# EAGLE library part EPF10K130V-P240 (library altera_SGQ)
EPF10K130 FLEX 10K family
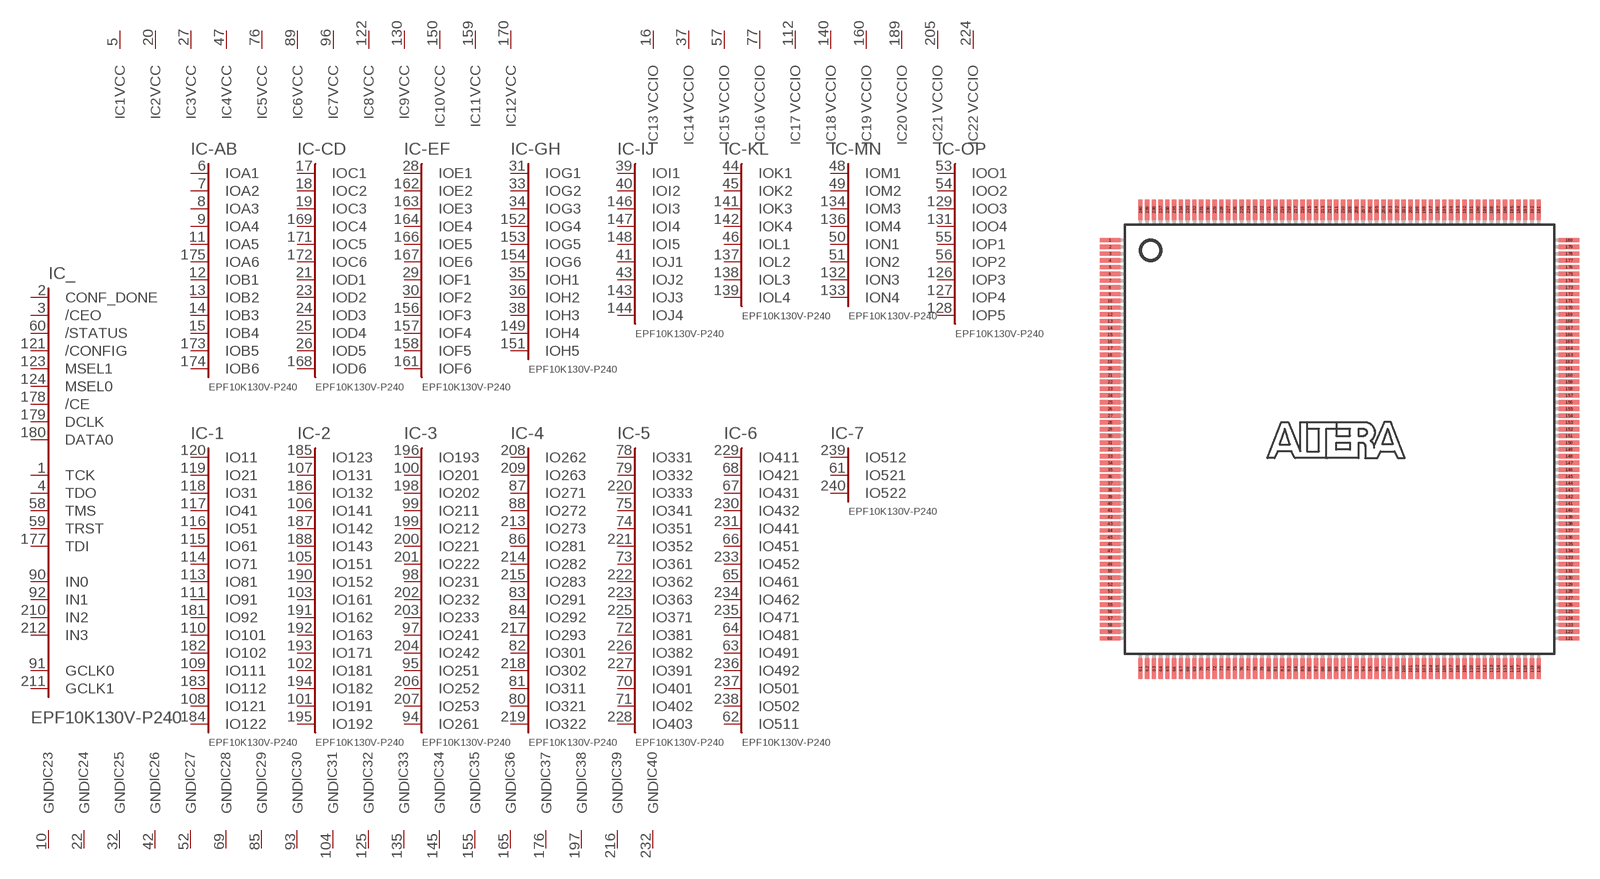
[diagram p23: symbol with the pads of PQFP240; footprint PQFP240]

Designator prefix IC; gates _=K_CTRL -AB=AB6 -CD=CD6 -EF=EF6 -GH=GH6 -IJ=IJ4 -KL=KL4 -MN=MN4 -OP=OP5 -1=122-240 -2=192-240 -3=261-240 -4=322-240 -5=403-240 -6=511-240 -7=522-240 1=VCCINT 2=VCCINT 3=VCCINT 4=VCCINT 5=VCCINT 6=VCCINT 7=VCCINT 8=VCCINT 9=VCCINT 10=VCCINT 11=VCCINT 12=VCCINT 13=VCCIO 14=VCCIO 15=VCCIO 16=VCCIO 17=VCCIO 18=VCCIO 19=VCCIO 20=VCCIO 21=VCCIO 22=VCCIO 23=GND 24=GND 25=GND 26=GND 27=GND 28=GND 29=GND 30=GND 31=GND 32=GND 33=GND 34=GND 35=GND 36=GND 37=GND 38=GND 39=GND 40=GND

## EPF10K130V-P240 (OC_FARNELL: unknown; OC_NEWARK: unknown)  [PQFP240]
1  _:TCK
2  _:CONF_DONE  in
3  _:/CEO  in
4  _:TDO
5  1:VCC  pwr
6  -AB:IOA1
7  -AB:IOA2
8  -AB:IOA3
9  -AB:IOA4
10  23:GND  pwr
11  -AB:IOA5
12  -AB:IOB1
13  -AB:IOB2
14  -AB:IOB3
15  -AB:IOB4
16  13:VCCIO  pwr
17  -CD:IOC1
18  -CD:IOC2
19  -CD:IOC3
20  2:VCC  pwr
21  -CD:IOD1
22  24:GND  pwr
23  -CD:IOD2
24  -CD:IOD3
25  -CD:IOD4
26  -CD:IOD5
27  3:VCC  pwr
28  -EF:IOE1
29  -EF:IOF1
30  -EF:IOF2
31  -GH:IOG1
32  25:GND  pwr
33  -GH:IOG2
34  -GH:IOG3
35  -GH:IOH1
36  -GH:IOH2
37  14:VCCIO  pwr
38  -GH:IOH3
39  -IJ:IOI1
40  -IJ:IOI2
41  -IJ:IOJ1
42  26:GND  pwr
43  -IJ:IOJ2
44  -KL:IOK1
45  -KL:IOK2
46  -KL:IOL1
47  4:VCC  pwr
48  -MN:IOM1
49  -MN:IOM2
50  -MN:ION1
51  -MN:ION2
52  27:GND  pwr
53  -OP:IOO1
54  -OP:IOO2
55  -OP:IOP1
56  -OP:IOP2
57  15:VCCIO  pwr
58  _:TMS
59  _:TRST
60  _:/STATUS  in
61  -7:IO521
62  -6:IO511
63  -6:IO491
64  -6:IO481
65  -6:IO461
66  -6:IO451
67  -6:IO431
68  -6:IO421
69  28:GND  pwr
70  -5:IO401
71  -5:IO402
72  -5:IO381
73  -5:IO361
74  -5:IO351
75  -5:IO341
76  5:VCC  pwr
77  16:VCCIO  pwr
78  -5:IO331
79  -5:IO332
80  -4:IO321
81  -4:IO311
82  -4:IO301
83  -4:IO291
84  -4:IO292
85  29:GND  pwr
86  -4:IO281
87  -4:IO271
88  -4:IO272
89  6:VCC  pwr
90  _:IN0  in
91  _:GCLK0  in
92  _:IN1  in
93  30:GND  pwr
94  -3:IO261
95  -3:IO251
96  7:VCC  pwr
97  -3:IO241
98  -3:IO231
99  -3:IO211
100  -3:IO201
101  -2:IO191
102  -2:IO181
103  -2:IO161
104  31:GND  pwr
105  -2:IO151
106  -2:IO141
107  -2:IO131
108  -1:IO121
109  -1:IO111
110  -1:IO101
111  -1:IO91
112  17:VCCIO  pwr
113  -1:IO81
114  -1:IO71
115  -1:IO61
116  -1:IO51
117  -1:IO41
118  -1:IO31
119  -1:IO21
120  -1:IO11
121  _:/CONFIG  in
122  8:VCC  pwr
123  _:MSEL1  in
124  _:MSEL0  in
125  32:GND  pwr
126  -OP:IOP3
127  -OP:IOP4
128  -OP:IOP5
129  -OP:IOO3
130  9:VCC  pwr
131  -OP:IOO4
132  -MN:ION3
133  -MN:ION4
134  -MN:IOM3
135  33:GND  pwr
136  -MN:IOM4
137  -KL:IOL2
138  -KL:IOL3
139  -KL:IOL4
140  18:VCCIO  pwr
141  -KL:IOK3
142  -KL:IOK4
143  -IJ:IOJ3
144  -IJ:IOJ4
145  34:GND  pwr
146  -IJ:IOI3
147  -IJ:IOI4
148  -IJ:IOI5
149  -GH:IOH4
150  10:VCC  pwr
151  -GH:IOH5
152  -GH:IOG4
153  -GH:IOG5
154  -GH:IOG6
155  35:GND  pwr
156  -EF:IOF3
157  -EF:IOF4
158  -EF:IOF5
159  11:VCC  pwr
160  19:VCCIO  pwr
161  -EF:IOF6
162  -EF:IOE2
163  -EF:IOE3
164  -EF:IOE4
165  36:GND  pwr
166  -EF:IOE5
167  -EF:IOE6
168  -CD:IOD6
169  -CD:IOC4
170  12:VCC  pwr
171  -CD:IOC5
172  -CD:IOC6
173  -AB:IOB5
174  -AB:IOB6
175  -AB:IOA6
176  37:GND  pwr
177  _:TDI
178  _:/CE  in
179  _:DCLK  in
180  _:DATA0  in
181  -1:IO92
182  -1:IO102
183  -1:IO112
184  -1:IO122
185  -2:IO123
186  -2:IO132
187  -2:IO142
188  -2:IO143
189  20:VCCIO  pwr
190  -2:IO152
191  -2:IO162
192  -2:IO163
193  -2:IO171
194  -2:IO182
195  -2:IO192
196  -3:IO193
197  38:GND  pwr
198  -3:IO202
199  -3:IO212
200  -3:IO221
201  -3:IO222
202  -3:IO232
203  -3:IO233
204  -3:IO242
205  21:VCCIO  pwr
206  -3:IO252
207  -3:IO253
208  -4:IO262
209  -4:IO263
210  _:IN2  in
211  _:GCLK1  in
212  _:IN3  in
213  -4:IO273
214  -4:IO282
215  -4:IO283
216  39:GND  pwr
217  -4:IO293
218  -4:IO302
219  -4:IO322
220  -5:IO333
221  -5:IO352
222  -5:IO362
223  -5:IO363
224  22:VCCIO  pwr
225  -5:IO371
226  -5:IO382
227  -5:IO391
228  -5:IO403
229  -6:IO411
230  -6:IO432
231  -6:IO441
232  40:GND  pwr
233  -6:IO452
234  -6:IO462
235  -6:IO471
236  -6:IO492
237  -6:IO501
238  -6:IO502
239  -7:IO512
240  -7:IO522

## Footprint PQFP240 (pad centres in mm)
Plastic Quad Flat Pack
smd 1.5 x 0.32: 1 -17,14.75; 2 -17,14.25; 3 -17,13.75; 4 -17,13.25; 5 -17,12.75; 6 -17,12.25; 7 -17,11.75; 8 -17,11.25; 9 -17,10.75; 10 -17,10.25; 11 -17,9.75; 12 -17,9.25; 13 -17,8.75; 14 -17,8.25; 15 -17,7.75; 16 -17,7.25; 17 -17,6.75; 18 -17,6.25; 19 -17,5.75; 20 -17,5.25; 21 -17,4.75; 22 -17,4.25; 23 -17,3.75; 24 -17,3.25; 25 -17,2.75; 26 -17,2.25; 27 -17,1.75; 28 -17,1.25; 29 -17,0.75; 30 -17,0.25; 31 -17,-0.25; 32 -17,-0.75; 33 -17,-1.25; 34 -17,-1.75; 35 -17,-2.25; 36 -17,-2.75; 37 -17,-3.25; 38 -17,-3.75; 39 -17,-4.25; 40 -17,-4.75; 41 -17,-5.25; 42 -17,-5.75; 43 -17,-6.25; 44 -17,-6.75; 45 -17,-7.25; 46 -17,-7.75; 47 -17,-8.25; 48 -17,-8.75; 49 -17,-9.25; 50 -17,-9.75; 51 -17,-10.25; 52 -17,-10.75; 53 -17,-11.25; 54 -17,-11.75; 55 -17,-12.25; 56 -17,-12.75; 57 -17,-13.25; 58 -17,-13.75; 59 -17,-14.25; 60 -17,-14.75; 121 17,-14.75; 122 17,-14.25; 123 17,-13.75; 124 17,-13.25; 125 17,-12.75; 126 17,-12.25; 127 17,-11.75; 128 17,-11.25; 129 17,-10.75; 130 17,-10.25; 131 17,-9.75; 132 17,-9.25; 133 17,-8.75; 134 17,-8.25; 135 17,-7.75; 136 17,-7.25; 137 17,-6.75; 138 17,-6.25; 139 17,-5.75; 140 17,-5.25; 141 17,-4.75; 142 17,-4.25; 143 17,-3.75; 144 17,-3.25; 145 17,-2.75; 146 17,-2.25; 147 17,-1.75; 148 17,-1.25; 149 17,-0.75; 150 17,-0.25; 151 17,0.25; 152 17,0.75; 153 17,1.25; 154 17,1.75; 155 17,2.25; 156 17,2.75; 157 17,3.25; 158 17,3.75; 159 17,4.25; 160 17,4.75; 161 17,5.25; 162 17,5.75; 163 17,6.25; 164 17,6.75; 165 17,7.25; 166 17,7.75; 167 17,8.25; 168 17,8.75; 169 17,9.25; 170 17,9.75; 171 17,10.25; 172 17,10.75; 173 17,11.25; 174 17,11.75; 175 17,12.25; 176 17,12.75; 177 17,13.25; 178 17,13.75; 179 17,14.25; 180 17,14.75
smd 0.32 x 1.5: 61 -14.75,-17; 62 -14.25,-17; 63 -13.75,-17; 64 -13.25,-17; 65 -12.75,-17; 66 -12.25,-17; 67 -11.75,-17; 68 -11.25,-17; 69 -10.75,-17; 70 -10.25,-17; 71 -9.75,-17; 72 -9.25,-17; 73 -8.75,-17; 74 -8.25,-17; 75 -7.75,-17; 76 -7.25,-17; 77 -6.75,-17; 78 -6.25,-17; 79 -5.75,-17; 80 -5.25,-17; 81 -4.75,-17; 82 -4.25,-17; 83 -3.75,-17; 84 -3.25,-17; 85 -2.75,-17; 86 -2.25,-17; 87 -1.75,-17; 88 -1.25,-17; 89 -0.75,-17; 90 -0.25,-17; 91 0.25,-17; 92 0.75,-17; 93 1.25,-17; 94 1.75,-17; 95 2.25,-17; 96 2.75,-17; 97 3.25,-17; 98 3.75,-17; 99 4.25,-17; 100 4.75,-17; 101 5.25,-17; 102 5.75,-17; 103 6.25,-17; 104 6.75,-17; 105 7.25,-17; 106 7.75,-17; 107 8.25,-17; 108 8.75,-17; 109 9.25,-17; 110 9.75,-17; 111 10.25,-17; 112 10.75,-17; 113 11.25,-17; 114 11.75,-17; 115 12.25,-17; 116 12.75,-17; 117 13.25,-17; 118 13.75,-17; 119 14.25,-17; 120 14.75,-17; 181 14.75,17; 182 14.25,17; 183 13.75,17; 184 13.25,17; 185 12.75,17; 186 12.25,17; 187 11.75,17; 188 11.25,17; 189 10.75,17; 190 10.25,17; 191 9.75,17; 192 9.25,17; 193 8.75,17; 194 8.25,17; 195 7.75,17; 196 7.25,17; 197 6.75,17; 198 6.25,17; 199 5.75,17; 200 5.25,17; 201 4.75,17; 202 4.25,17; 203 3.75,17; 204 3.25,17; 205 2.75,17; 206 2.25,17; 207 1.75,17; 208 1.25,17; 209 0.75,17; 210 0.25,17; 211 -0.25,17; 212 -0.75,17; 213 -1.25,17; 214 -1.75,17; 215 -2.25,17; 216 -2.75,17; 217 -3.25,17; 218 -3.75,17; 219 -4.25,17; 220 -4.75,17; 221 -5.25,17; 222 -5.75,17; 223 -6.25,17; 224 -6.75,17; 225 -7.25,17; 226 -7.75,17; 227 -8.25,17; 228 -8.75,17; 229 -9.25,17; 230 -9.75,17; 231 -10.25,17; 232 -10.75,17; 233 -11.25,17; 234 -11.75,17; 235 -12.25,17; 236 -12.75,17; 237 -13.25,17; 238 -13.75,17; 239 -14.25,17; 240 -14.75,17